# EAGLE library part MDBT53 (library MDBT53_230719)
Raytac Corporation Part Number: MDBT53-1M / MDBT53-P1M / MDBT53-U1M Bluetooth Low Energy Module based on Noridc nRF5340 Size: 14.3x9.3mm Source: Raytac datasheet
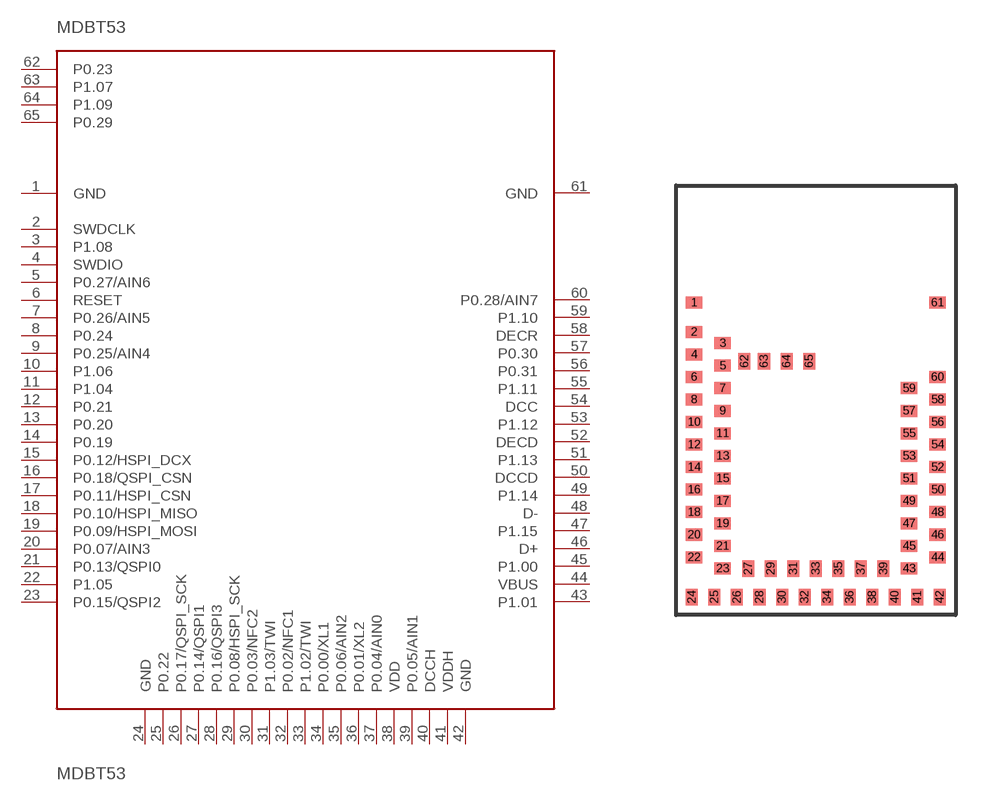
[diagram p0: symbol with the pads of MDBT53; footprint MDBT53]

Designator prefix MDBT53

## MDBT53  [MDBT53]
1  GND
2  SWDCLK
3  P1.08
4  SWDIO
5  P0.27/AIN6
6  RESET
7  P0.26/AIN5
8  P0.24
9  P0.25/AIN4
10  P1.06
11  P1.04
12  P0.21
13  P0.20
14  P0.19
15  P0.12/HSPI_DCX
16  P0.18/QSPI_CSN
17  P0.11/HSPI_CSN
18  P0.10/HSPI_MISO
19  P0.09/HSPI_MOSI
20  P0.07/AIN3
21  P0.13/QSPI0
22  P1.05
23  P0.15/QSPI2
24  GND
25  P0.22
26  P0.17/QSPI_SCK
27  P0.14/QSPI1
28  P0.16/QSPI3
29  P0.08/HSPI_SCK
30  P0.03/NFC2
31  P1.03/TWI
32  P0.02/NFC1
33  P1.02/TWI
34  P0.00/XL1
35  P0.06/AIN2
36  P0.01/XL2
37  P0.04/AIN0
38  VDD
39  P0.05/AIN1
40  DCCH
41  VDDH
42  GND
43  P1.01
44  VBUS
45  P1.00
46  D+
47  P1.15
48  D-
49  P1.14
50  DCCD
51  P1.13
52  DECD
53  P1.12
54  DCC
55  P1.11
56  P0.31
57  P0.30
58  DECR
59  P1.10
60  P0.28/AIN7
61  GND
62  P0.23
63  P1.07
64  P1.09
65  P0.29

## Footprint MDBT53 (pad centres in mm)
Raytac Corporation Part Number: MDBT53-1M / MDBT53-P1M Bluetooth Low Energy Module based on Noridc nRF5340 Size: 14.3x9.3mm Source: Raytac datasheet
smd 0.55 x 0.4: 1 -4.05,3.25; 2 -4.05,2.275; 3 -3.1,1.9; 4 -4.05,1.525; 5 -3.1,1.15; 6 -4.05,0.775; 7 -3.1,0.4; 8 -4.05,0.025; 9 -3.1,-0.35; 10 -4.05,-0.725; 11 -3.1,-1.1; 12 -4.05,-1.475; 13 -3.1,-1.85; 14 -4.05,-2.225; 15 -3.1,-2.6; 16 -4.05,-2.975; 17 -3.1,-3.35; 18 -4.05,-3.725; 19 -3.1,-4.1; 20 -4.05,-4.475; 21 -3.1,-4.85; 22 -4.05,-5.225; 23 -3.1,-5.6; 43 3.1,-5.6; 44 4.05,-5.225; 45 3.1,-4.85; 46 4.05,-4.475; 47 3.1,-4.1; 48 4.05,-3.725; 49 3.1,-3.35; 50 4.05,-2.975; 51 3.1,-2.6; 52 4.05,-2.225; 53 3.1,-1.85; 54 4.05,-1.475; 55 3.1,-1.1; 56 4.05,-0.725; 57 3.1,-0.35; 58 4.05,0.025; 59 3.1,0.4; 60 4.05,0.775; 61 4.05,3.25
smd 0.4 x 0.55: 24 -4.125,-6.55; 25 -3.375,-6.55; 26 -2.625,-6.55; 27 -2.25,-5.6; 28 -1.875,-6.55; 29 -1.5,-5.6; 30 -1.125,-6.55; 31 -0.75,-5.6; 32 -0.375,-6.55; 33 0,-5.6; 34 0.375,-6.55; 35 0.75,-5.6; 36 1.125,-6.55; 37 1.5,-5.6; 38 1.875,-6.55; 39 2.25,-5.6; 40 2.625,-6.55; 41 3.375,-6.55; 42 4.125,-6.55; 62 -2.375,1.3; 63 -1.725,1.3; 64 -0.975,1.3; 65 -0.225,1.3